# Altium footprint library GS-101.PcbLib: 29 footprints (part 1 of 2)
Each footprint in its own frame and in the unit in brackets; x right, y up, seen from the top. Pads: shape width x height; smd on the part's side, far side on the other; paste and mask are expansions set on the pad; w line width, h text height; cw(c..) or ccw(c..) is an arc to the next point about the centre after c.
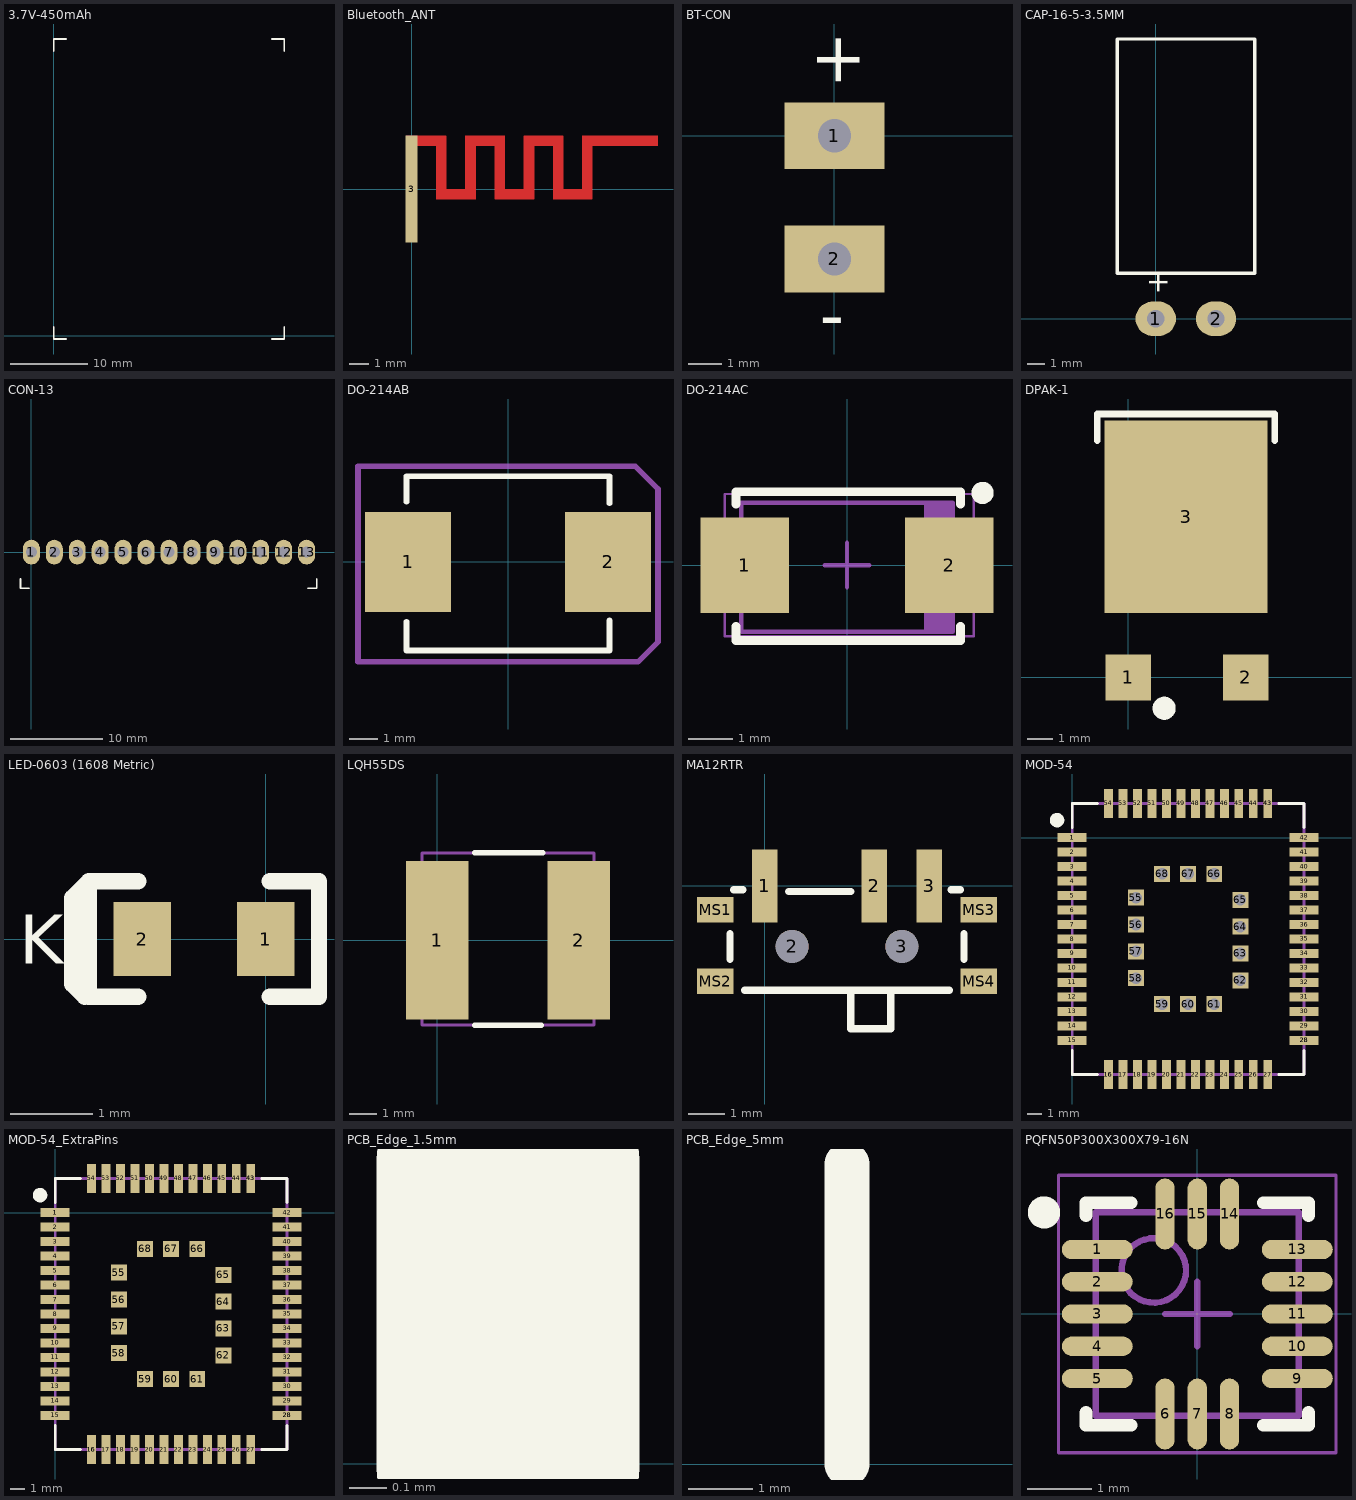
[diagram p0: the footprints below, top view; thin cyan lines are the x and y axes]

## 3.7V-450mAh [mm] "Li-Ion Battery"
Top Overlay:
  lines w0.2: 0,1.15 0,-0.45 1.6,-0.45 ; 0,37 0,38.6 1.6,38.6 ; 28.4,-0.45 30,-0.45 30,1.15 ; 28.4,38.6 30,38.6 30,37
3D body "3.7V-450mAh.STEP": height 5, standoff 0, extent 0.05,-0.2 30.05,38.4

## Bluetooth_ANT [mm]
pads (1):
  rect 0.6x5.5 smd mask+0.05: 3(0,0)
Top Layer:
  rectangle: 7.25,-0.55 7.8,2.75
  rectangle: 7.25,-0.55 9.2,0
  rectangle: 8.75,-0.55 9.3,2.75
  rectangle: 8.75,2.2 12.65,2.75
  rectangle: 4.25,-0.55 4.8,2.75
  rectangle: 4.25,-0.55 6.25,0
  rectangle: 5.75,-0.55 6.3,2.75
  rectangle: 5.75,2.2 7.7,2.75
  rectangle: 2.75,2.2 4.75,2.75
  rectangle: 2.75,-0.55 3.3,2.75
  rectangle: 1.25,-0.55 3.25,0
  rectangle: 1.25,-0.55 1.8,2.75
  rectangle: -0.25,2.2 1.7,2.75

## BT-CON [mm]
pads (2):
  rect 3x2 hole 1: 1(0,0) 2(0,-3.7)
Top Overlay:
  text "+" at 0.75,1.4 h1.5
  text "-" at -0.45,-6.1 h1.5

## CAP-16-5-3.5MM [mm]
pads (2):
  oval 2.35x2 hole 1: 1(0,0) 2(3.5,0)
Top Overlay:
  lines w0.2: 5.75,2.65 -2.25,2.65 -2.25,16.263 5.76,16.263 5.76,2.65
  text "+" at 0.7,1.4 h1.25
3D body "CAPAER_D080_L135_P035_W006X030_CAPAER_D080_L135_P035_W006X030-2.STEP": height 4.5, standoff -3.5, extent -2.25,-0.364 5.76,16.263

## CON-13 [mm]
pads (13):
  oval 1.85x2.7 hole 1.2: 1(0,0) 2(2.5,0) 3(5,0) 4(7.5,0) 5(10,0) 6(12.5,0) 7(15,0) 8(17.5,0) 9(20,0) 10(22.5,0) 11(25,0) 12(27.5,0) 13(30,0)
Top Overlay:
  lines w0.2: -1.2,-2.95 -1.2,-3.95 -0.25,-3.95 ; 30.15,-3.95 31.1,-3.95 31.1,-2.95
Mechanical 15:
  text "ACC" at 5.55,2 h1.25
  text "P-" at 3.15,2 h1.25
  text "P+" at 0.7,2 h1.25
  text "RELAY1" at 8.25,2 h1.25
  text "GND" at 10.7,2 h1.25
  text "RXD" at 13.25,2 h1.25
  text "TXD" at 15.65,1.95 h1.25
  text "MIC+" at 18.15,2 h1.25
  text "MIC-" at 20.55,2 h1.25
  text "SOS" at 23.1,2 h1.25
  text "GND" at 25.6,2 h1.25
  text "EXT_IN" at 28.1,2 h1.25
  text "RELAY2" at 30.65,2 h1.25
3D body "350220012.stp": height 2.98, standoff 0.02, extent 0.1,-3.95 31.1,1.95
3D body: height 0, standoff -2, extent -0.397,-0.399 0.4,0.399
3D body: height 0, standoff -2, extent 2.103,-0.399 2.9,0.399
3D body: height 0, standoff -2, extent 4.603,-0.399 5.4,0.399
3D body: height 0, standoff -2, extent 7.103,-0.399 7.9,0.399
3D body: height 0, standoff -2, extent 9.603,-0.399 10.4,0.399
3D body: height 0, standoff -2, extent 12.103,-0.399 12.9,0.399
3D body: height 0, standoff -2, extent 14.603,-0.399 15.4,0.399
3D body: height 0, standoff -2, extent 17.103,-0.399 17.9,0.399
3D body: height 0, standoff -2, extent 19.603,-0.399 20.4,0.399
3D body: height 0, standoff -2, extent 22.103,-0.399 22.9,0.399
3D body: height 0, standoff -2, extent 24.603,-0.399 25.4,0.399
3D body: height 0, standoff -2, extent 27.103,-0.399 27.9,0.399
3D body: height 0, standoff -2, extent 29.603,-0.399 30.4,0.399

## DO-214AB [mm]
pads (2):
  rect 3x3.5 smd: 1(-3.5,0) 2(3.5,0)
Top Overlay:
  lines w0.2: -3.55,-2.1 -3.55,-3.1 3.55,-3.1 3.55,-2.05 ; -3.55,2.1 -3.55,3 3.55,3 3.55,2.05
Mechanical 15:
  lines w0.2: -5.25,-3.5 -5.25,3.35 4.45,3.35 5.25,2.55 5.25,-2.8 4.55,-3.5 -5.25,-3.5
3D body "User Library-DO-214AB(SMC).step": height 2.67, standoff 0.03, extent -4.014,-3.2 4.114,3.099

## DO-214AC [mm] "DIODE SCHOTTKY 40V 2A DO214AA"
height 2.45
pads (2):
  rect 2x2.15 smd: 1(-2.3,0) 2(2.3,0)
Top Overlay:
  circle w0.25: c3.05,1.625 r0.125
  lines w0.2: -2.5,-1.375 -2.5,-1.7 2.55,-1.7 2.55,-1.375 ; -2.5,1.375 -2.5,1.65 2.55,1.65 2.55,1.375
Mechanical 13:
  rectangle: 1.736,-1.55 2.375,1.45
  lines w0.1: -2.375,-1.5 -2.375,1.4 2.375,1.4 2.375,-1.5 -2.375,-1.5
Mechanical 15:
  lines w0.05: -2.75,-1.6 -2.75,1.6 2.85,1.6 2.85,-1.6 -2.75,-1.6
  lines w0.1: -0.5,0 0.5,0 ; 0,-0.5 0,0.5
3D body "User Library-DO-214AC(SMA).step": height 2.29, standoff 0, extent -2.693,-1.447 2.793,1.347

## DPAK-1 [mil]
pads (3):
  rect 70x70 smd: 1(0,0) 2(180,0)
  rect 250x295.28 smd: 3(88.58,246.06)
Top Overlay:
  circle w17.72: c55.12,-47.24 r8.8
  lines w10: -47.24,362.2 -47.24,403.54 224.41,403.54 224.41,362.2
3D body "SW3dPS-DPAK-1.STEP": height 94.19, standoff -0.89, extent -40.95,-10.6 216.54,380.68

## LED-0603 (1608 Metric) [mm] "SMD LED 0603, P=2.2mm"
pads (2):
  rect 0.7x0.9 smd: 1(0,0) 2(-1.5,0)
Top Overlay:
  lines w0.2: -2.2,-0.7 -2.35,-0.55 -2.35,0.5 -2.15,0.7 ; -1.55,-0.7 -2.15,-0.7 -2.15,0.7 ; -1.55,0.7 -2.15,0.7 ; 0.05,-0.7 0.65,-0.7 0.65,0.7 0.05,0.7
  text "K" at -3,-0.3 h0.6
3D body "User Library-LED_0603_R.STEP": height 0.6, standoff 0, extent -1.55,-0.4 0.05,0.4

## LQH55DS [mm] "FIXED IND 10UH 1.7A 93 MOHM SMD"
height 5
pads (2):
  rect 2.25x5.7 smd: 1(0,0) 2(5.1,0)
Top Overlay:
  lines w0.2: 1.35,-3.05 3.75,-3.05 ; 1.35,3.15 3.8,3.15
Mechanical 15:
  lines w0.1: -0.55,-3.05 5.65,-3.05 5.65,3.15 -0.55,3.15 -0.55,-3.05
3D body "IND_TAIYO_NRS6020.step": height 2.01, standoff 0, extent -0.549,-3.101 5.649,3.101

## MA12RTR [mm] "Slide Switch SPDT Surface Mount, Right Angle"
height 1.4
pads (9):
  rect 0.7x2 smd: 1(0,0) 2(3,0) 3(4.5,0)
  round 0.9 hole 0.9 unplated: 2(0.75,-1.65) 3(3.75,-1.65)
  rect 1x0.7 smd: MS1(-1.35,-0.65) MS2(-1.35,-2.6) MS3(5.85,-0.65) MS4(5.85,-2.6)
Top Overlay:
  lines w0.2: -0.95,-2 -0.95,-1.3 ; -0.85,-0.1 -0.6,-0.1 ; -0.55,-2.85 5.05,-2.85 ; 0.65,-0.15 2.35,-0.15 ; 2.35,-2.85 2.35,-3.9 3.45,-3.9 3.45,-2.85 ; 5.1,-0.1 5.35,-0.1 ; 5.45,-2 5.45,-1.3
3D body "User Library-pcm12smtr.STEP": height 1.4, standoff -0.5, extent -1.431,-3.994 5.923,0.58

## MOD-54 [mm] "SKC111"
pads (72):
  rect 2x0.6 smd: 1(0,0) 1(0,0) 2(0,-1) 3(0,-2) 4(0,-3) 5(0,-4) 6(0,-5) 7(0,-6) 8(0,-7) 9(0,-8) 10(0,-9) 11(0,-10) 12(0,-11) 13(0,-12) 14(0,-13) 15(0,-14) 28(16,-14) 28(16,-14) 29(16,-13) 30(16,-12) 31(16,-11) 32(16,-10) 33(16,-9) 34(16,-8) 35(16,-7) 36(16,-6) 37(16,-5) 38(16,-4) 39(16,-3) 40(16,-2) 41(16,-1) 42(16,0)
  rect 0.6x2 smd: 16(2.5,-16.35) 16(2.5,-16.35) 17(3.5,-16.35) 18(4.5,-16.35) 19(5.5,-16.35) 20(6.5,-16.35) 21(7.5,-16.35) 22(8.5,-16.35) 23(9.5,-16.35) 24(10.5,-16.35) 25(11.5,-16.35) 26(12.5,-16.35) 27(13.5,-16.35) 43(13.5,2.35) 43(13.5,2.35) 44(12.5,2.35) 45(11.5,2.35) 46(10.5,2.35) 47(9.5,2.35) 48(8.5,2.35) 49(7.5,2.35) 50(6.5,2.35) 51(5.5,2.35) 52(4.5,2.35) 53(3.5,2.35) 54(2.5,2.35)
  rect 1.1x1.1 hole 0.8: 55(4.4,-4.15) 56(4.4,-6) 57(4.4,-7.85) 58(4.4,-9.7) 59(6.2,-11.5) 60(8,-11.5) 61(9.8,-11.5) 62(11.6,-9.85) 63(11.6,-8) 64(11.6,-6.15) 65(11.6,-4.3) 66(9.8,-2.5) 67(8,-2.5) 68(6.2,-2.5)
Top Overlay:
  circle w0.5: c-1.05,1.2 r0.25
  lines w0.2: 0,-14.7 0,-16.35 1.75,-16.35 ; 0,0.7 0,2.35 1.75,2.35 ; 14.25,-16.35 16,-16.35 16,-14.7 ; 14.25,2.35 16,2.35 16,0.7
Mechanical 1:
  lines w0.2: 0,-16.35 16,-16.35 16,2.35 0,2.35 0,-16.35
3D body "User Library-Quectel MC60.step": height 2.1, standoff 0, extent -0.001,-16.352 16.002,2.35

## MOD-54_ExtraPins [mm] "SKC111"
pads (72):
  rect 2x0.6 smd: 1(0,0) 1(0,0) 2(0,-1) 3(0,-2) 4(0,-3) 5(0,-4) 6(0,-5) 7(0,-6) 8(0,-7) 9(0,-8) 10(0,-9) 11(0,-10) 12(0,-11) 13(0,-12) 14(0,-13) 15(0,-14) 28(16,-14) 28(16,-14) 29(16,-13) 30(16,-12) 31(16,-11) 32(16,-10) 33(16,-9) 34(16,-8) 35(16,-7) 36(16,-6) 37(16,-5) 38(16,-4) 39(16,-3) 40(16,-2) 41(16,-1) 42(16,0)
  rect 0.6x2 smd: 16(2.5,-16.35) 16(2.5,-16.35) 17(3.5,-16.35) 18(4.5,-16.35) 19(5.5,-16.35) 20(6.5,-16.35) 21(7.5,-16.35) 22(8.5,-16.35) 23(9.5,-16.35) 24(10.5,-16.35) 25(11.5,-16.35) 26(12.5,-16.35) 27(13.5,-16.35) 43(13.5,2.35) 43(13.5,2.35) 44(12.5,2.35) 45(11.5,2.35) 46(10.5,2.35) 47(9.5,2.35) 48(8.5,2.35) 49(7.5,2.35) 50(6.5,2.35) 51(5.5,2.35) 52(4.5,2.35) 53(3.5,2.35) 54(2.5,2.35)
  rect 1.1x1.1 smd: 55(4.4,-4.15) 56(4.4,-6) 57(4.4,-7.85) 58(4.4,-9.7) 59(6.2,-11.5) 60(8,-11.5) 61(9.8,-11.5) 62(11.6,-9.85) 63(11.6,-8) 64(11.6,-6.15) 65(11.6,-4.3) 66(9.8,-2.5) 67(8,-2.5) 68(6.2,-2.5)
Top Overlay:
  circle w0.5: c-1.05,1.2 r0.25
  lines w0.2: 0,-14.7 0,-16.35 1.75,-16.35 ; 0,0.7 0,2.35 1.75,2.35 ; 14.25,-16.35 16,-16.35 16,-14.7 ; 14.25,2.35 16,2.35 16,0.7
Mechanical 1:
  lines w0.2: 0,-16.35 16,-16.35 16,2.35 0,2.35 0,-16.35
3D body "User Library-Quectel MC60.step": height 2.1, standoff 0, extent -0.001,-16.352 16.002,2.35

## PCB_Edge_1.5mm [mm]
Top Overlay:
  lines w0.7: 0,0 0,0.8

## PCB_Edge_5mm [mm]
Top Overlay:
  lines w0.7: 0,0 0,4.65

## PQFN50P300X300X79-16N [mm] "PQFN, 16-Leads, Body 3.00x3.00mm, Pitch 0.50mm, IPC Medium Density"
height 0.79
pads (16):
  oval 1.1x0.3 smd mask+0.038: 1(-1.55,1) 2(-1.55,0.5) 3(-1.55,0) 4(-1.55,-0.5) 5(-1.55,-1) 9(1.55,-1) 10(1.55,-0.5) 11(1.55,0) 12(1.55,0.5) 13(1.55,1)
  oval 0.3x1.1 smd mask+0.038: 6(-0.5,-1.55) 7(0,-1.55) 8(0.5,-1.55) 14(0.5,1.55) 15(0,1.55) 16(-0.5,1.55)
Top Overlay:
  circle w0.25: c-2.375,1.575 r0.125
  lines w0.2: -1.725,-1.525 -1.725,-1.725 -1.025,-1.725 ; -1.725,1.525 -1.725,1.725 -1.025,1.725 ; 1.025,-1.725 1.725,-1.725 1.725,-1.525 ; 1.025,1.725 1.725,1.725 1.725,1.525
Mechanical 13:
  circle w0.1: c-0.675,0.675 r0.5
  lines w0.1: -1.575,-1.575 -1.575,1.575 1.575,1.575 1.575,-1.575 -1.575,-1.575
Mechanical 15:
  lines w0.05: -2.15,-2.15 -2.15,2.15 2.15,2.15 2.15,-2.15 -2.15,-2.15
  lines w0.1: -0.5,0 0.5,0 ; 0,-0.5 0,0.5
3D body "PQFN50P300X300X79-16N.step": height 0.78, standoff 0, extent -1.575,-1.575 1.575,1.575